# EAGLE library part M111 (library dec-m)
Sixteen inverters.
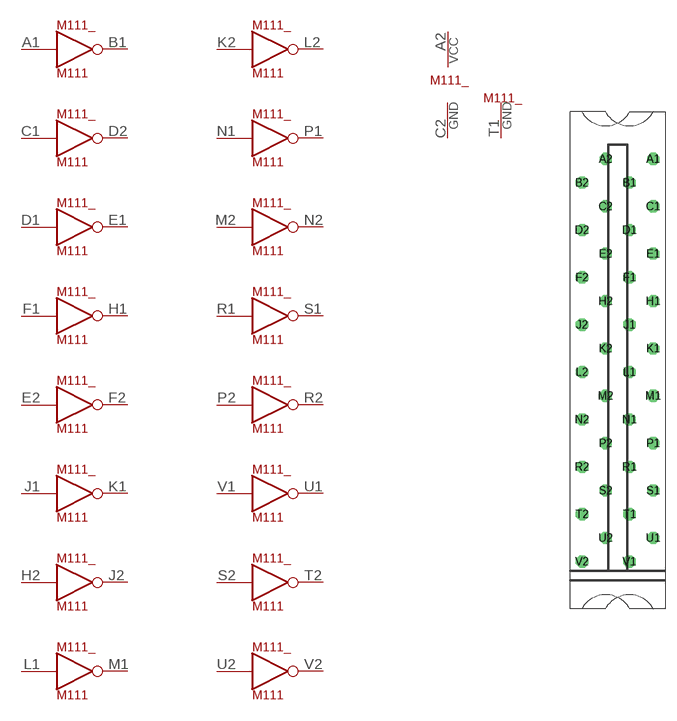
[diagram p3: symbol with the pads of H807; footprint H807]

Designator prefix M111_; gates G$17=POWER G$1=T1GND B1=INVERTER-P D2=INVERTER-P E1=INVERTER-P H1=INVERTER-P F2=INVERTER-P K1=INVERTER-P J2=INVERTER-P M1=INVERTER-P L2=INVERTER-P P1=INVERTER-P N2=INVERTER-P S1=INVERTER-P R2=INVERTER-P U1=INVERTER-P T2=INVERTER-P V2=INVERTER-P

## M111  [H807]
A1  B1:IN  in
A2  G$17:VCC  pwr
B1  B1:OUT  out
C1  D2:IN  in
C2  G$17:GND  pwr
D1  E1:IN  in
D2  D2:OUT  out
E1  E1:OUT  out
E2  F2:IN  in
F1  H1:IN  in
F2  F2:OUT  out
H1  H1:OUT  out
H2  J2:IN  in
J1  K1:IN  in
J2  J2:OUT  out
K1  K1:OUT  out
K2  L2:IN  in
L1  M1:IN  in
L2  L2:OUT  out
M1  M1:OUT  out
M2  N2:IN  in
N1  P1:IN  in
N2  N2:OUT  out
P1  P1:OUT  out
P2  R2:IN  in
R1  S1:IN  in
R2  R2:OUT  out
S1  S1:OUT  out
S2  T2:IN  in
T1  G$1:GND  pwr
T2  T2:OUT  out
U1  U1:OUT  out
U2  V2:IN  in
V1  U1:IN  in
V2  V2:OUT  out

## Footprint H807 (pad centres in mm)
One-wide female edge connector
drill 1.092 octagon: A1 4.763,28.575; A2 -1.587,28.575; B1 1.587,25.4; B2 -4.763,25.4; C1 4.763,22.225; C2 -1.587,22.225; D1 1.587,19.05; D2 -4.763,19.05; E1 4.763,15.875; E2 -1.587,15.875; F1 1.587,12.7; F2 -4.763,12.7; H1 4.763,9.525; H2 -1.587,9.525; J1 1.587,6.35; J2 -4.763,6.35; K1 4.763,3.175; K2 -1.587,3.175; L1 1.587,0; L2 -4.763,0; M1 4.763,-3.175; M2 -1.587,-3.175; N1 1.587,-6.35; N2 -4.763,-6.35; P1 4.763,-9.525; P2 -1.587,-9.525; R1 1.587,-12.7; R2 -4.763,-12.7; S1 4.763,-15.875; S2 -1.587,-15.875; T1 1.587,-19.05; T2 -4.763,-19.05; U1 4.763,-22.225; U2 -1.587,-22.225; V1 1.587,-25.4; V2 -4.763,-25.4